# Altium footprint library 7seg.PcbLib: 2 footprints
Each footprint in its own frame and in the unit in brackets; x right, y up, seen from the top. Pads: shape width x height; smd on the part's side, far side on the other; paste and mask are expansions set on the pad; w line width, h text height; cw(c..) or ccw(c..) is an arc to the next point about the centre after c.
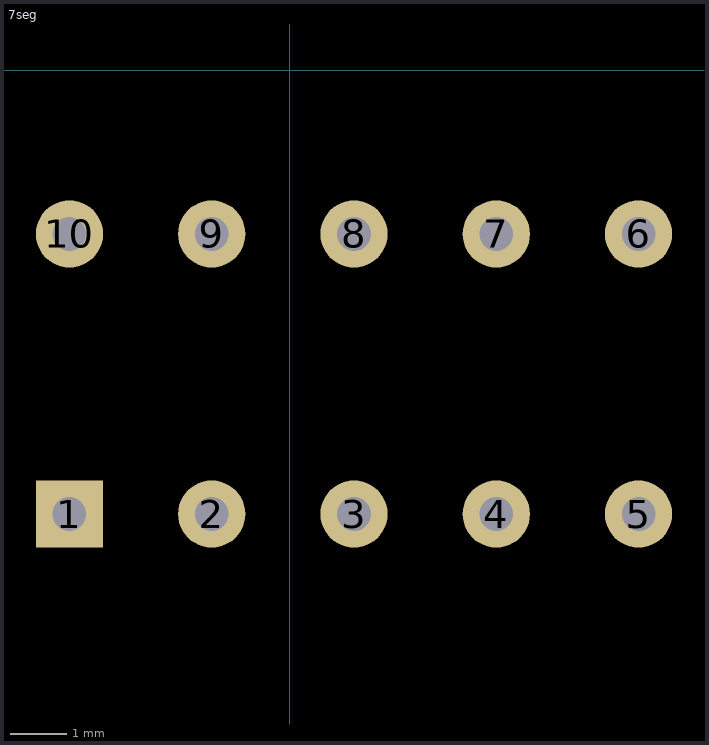
[diagram p0: the footprints below, top view; thin cyan lines are the x and y axes]

## 7seg [mm]
pads (10):
  rect 1.2x1.2 hole 0.6: 1(-3.937,-7.921)
  round 1.2 hole 0.6: 2(-1.397,-7.921) 3(1.143,-7.921) 4(3.683,-7.921) 5(6.223,-7.921) 6(6.223,-2.921) 7(3.683,-2.921) 8(1.143,-2.921) 9(-1.397,-2.921) 10(-3.937,-2.921)

## PCBComponent_1 [mm]